# EAGLE library part 2X5 (library pimoroni-headers)
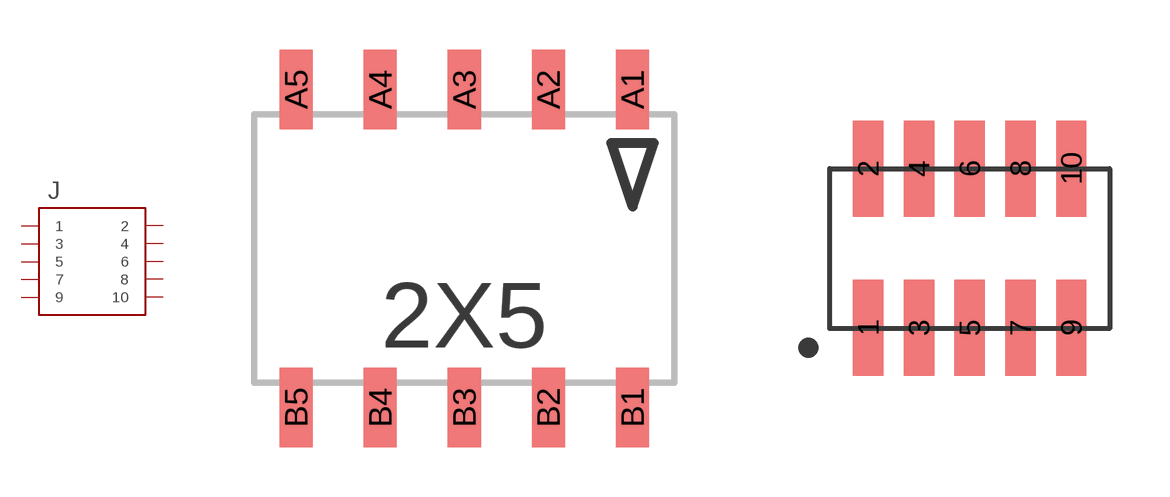
[diagram p15: symbol with the pads of 2X5_FEMALE_SMT_RIGHT_ANGLE; footprints 2X5_FEMALE_SMT_RIGHT_ANGLE, 5X2-1.27MM-SMT]

Designator prefix J

## 2X5  [2X5_FEMALE_SMT_RIGHT_ANGLE]
A1  1
A2  3
A3  5
A4  7
A5  9
B1  2
B2  4
B3  6
B4  8
B5  10

## 2X51.27-SMT  [5X2-1.27MM-SMT]
1  1
2  2
3  3
4  4
5  5
6  6
7  7
8  8
9  9
10  10

## Footprint 2X5_FEMALE_SMT_RIGHT_ANGLE (pad centres in mm)
smd 1 x 2.4: A1 5.08,4.8; A2 2.54,4.8; A3 0,4.8; A4 -2.54,4.8; A5 -5.08,4.8; B1 5.08,-4.8; B2 2.54,-4.8; B3 0,-4.8; B4 -2.54,-4.8; B5 -5.08,-4.8

## Footprint 5X2-1.27MM-SMT (pad centres in mm)
smd 0.76 x 2.4: 1 -2.54,-1.98; 2 -2.54,2; 3 -1.27,-1.98; 4 -1.27,2; 5 0,-1.98; 6 0,2; 7 1.27,-1.98; 8 1.27,2; 9 2.54,-1.98; 10 2.54,2